# Altium integrated library Altium_WE_eiSos_WE-CNSW.intlib: 23 symbols
Pins are listed as number, name and electrical type; pins without a type are passive.

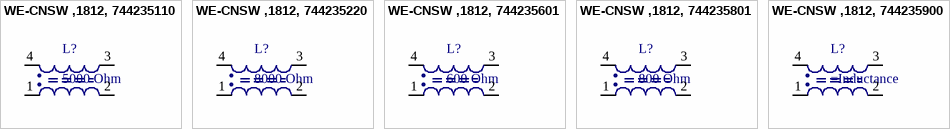
[diagram p0: symbols WE-CNSW ,1812, 744235110 to WE-CNSW ,1812, 744235900]

## WE-CNSW ,1812, 744235110
designator L?, comment 5000 Ohm
SMD Shielded Coupled Inductor WE-CNSW, Z=5000 Ohm; PartNo: 744235110; Manufacturer: Würth Elektronik eiSos GmbH; Impedance: 5000 Ohm; ComponentLink1Description: Manufacturer; ComponentLink1URL: http://www.we-online.de; Created by: Christin Zierenner; Created Date: Jan 2013; ComponentLink2Description: Datasheet; ComponentLink2URL: http://katalog.we-online.de/pbs/datasheet/744235110.pdf
footprint WE-CNSW 1812 (SMD Line Filter, 4-Leads, Body 4.5x3.2mm)
pins: 1, 2, 3, 4

## WE-CNSW ,1812, 744235220
designator L?, comment 8000 Ohm
SMD Shielded Coupled Inductor WE-CNSW, Z=8000 Ohm; PartNo: 744235220; Manufacturer: Würth Elektronik eiSos GmbH; Impedance: 8000 Ohm; ComponentLink1Description: Manufacturer; ComponentLink1URL: http://www.we-online.de; Created by: Christin Zierenner; Created Date: Jan 2013; ComponentLink2Description: Datasheet; ComponentLink2URL: http://katalog.we-online.de/pbs/datasheet/744235220.pdf
footprint WE-CNSW 1812 (SMD Line Filter, 4-Leads, Body 4.5x3.2mm)
pins: 1, 2, 3, 4

## WE-CNSW ,1812, 744235601
designator L?, comment 600 Ohm
SMD Shielded Coupled Inductor WE-CNSW, Z=600 Ohm; PartNo: 744235601; Manufacturer: Würth Elektronik eiSos GmbH; Impedance: 600 Ohm; ComponentLink1Description: Manufacturer; ComponentLink1URL: http://www.we-online.de; Created by: Christin Zierenner; Created Date: Jan 2013; ComponentLink2Description: Datasheet; ComponentLink2URL: http://katalog.we-online.de/pbs/datasheet/744235601.pdf
footprint WE-CNSW 1812 (SMD Line Filter, 4-Leads, Body 4.5x3.2mm)
pins: 1, 2, 3, 4

## WE-CNSW ,1812, 744235801
designator L?, comment 800 Ohm
SMD Shielded Coupled Inductor WE-CNSW, Z=800 Ohm; PartNo: 744235801; Manufacturer: Würth Elektronik eiSos GmbH; Impedance: 800 Ohm; ComponentLink1Description: Manufacturer; ComponentLink1URL: http://www.we-online.de; Created by: Christin Zierenner; Created Date: Jan 2013; ComponentLink2Description: Datasheet; ComponentLink2URL: http://katalog.we-online.de/pbs/datasheet/744235801.pdf
footprint WE-CNSW 1812 (SMD Line Filter, 4-Leads, Body 4.5x3.2mm)
pins: 1, 2, 3, 4

## WE-CNSW ,1812, 744235900
designator L?
SMD Shielded Coupled Inductor WE-CNSW, Z=90 Ohm; PartNo: 744235900; Manufacturer: Würth Elektronik eiSos GmbH; Impedance: 90 Ohm; ComponentLink1Description: Manufacturer; ComponentLink1URL: http://www.we-online.de; Created by: Christin Zierenner; Created Date: Jan 2013; ComponentLink2Description: Datasheet; ComponentLink2URL: http://katalog.we-online.de/pbs/datasheet/744235900.pdf
footprint WE-CNSW 1812 (SMD Line Filter, 4-Leads, Body 4.5x3.2mm)
pins: 1, 2, 3, 4


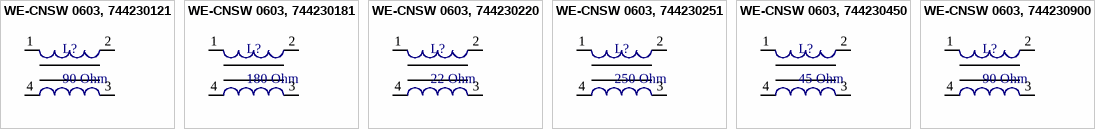
[diagram p1: symbols WE-CNSW 0603, 744230121 to WE-CNSW 0603, 744230900]

## WE-CNSW 0603, 744230121
designator L?, comment 90 Ohm
SMD Common Mode Noise Suppressor WE-CNSW,  Z= 120 Ohm; partNo: 744230900; Manufacturer: Würth Elektronik eiSos GmbH; Impedance: 90 Ohm; ComponentLink1Description: Manufacturer; ComponentLink1URL: http://www.we-online.de; Created by: Christin Zierenner; Created Date: March 2012; ComponentLink2Description: Datasheet; ComponentLink2URL: http://www.we-online.de/katalog/media/pdf/744230121.pdf
footprint WE-CNSW, 0603 (SMD Inductor, 4-Leads, Body 0.85x1.6mm)
pins: 1, 2, 3, 4

## WE-CNSW 0603, 744230181
designator L?, comment 180 Ohm
SMD Common Mode Noise Suppressor WE-CNSW,  Z= 180 Ohm; partNo: 744230181; Manufacturer: Würth Elektronik eiSos GmbH; Impedance: 180 Ohm; ComponentLink1Description: Manufacturer; ComponentLink1URL: http://www.we-online.de; Created by: Christin Zierenner; Created Date: March 2012; ComponentLink2Description: Datasheet; ComponentLink2URL: http://www.we-online.de/katalog/media/pdf/744230181.pdf
footprint WE-CNSW, 0603 (SMD Inductor, 4-Leads, Body 0.85x1.6mm)
pins: 1, 2, 3, 4

## WE-CNSW 0603, 744230220
designator L?, comment 22 Ohm
SMD Common Mode Noise Suppressor WE-CNSW,  Z= 22 Ohm; partNo: 744230220; Manufacturer: Würth Elektronik eiSos GmbH; Impedance: 22 Ohm; ComponentLink1Description: Manufacturer; ComponentLink1URL: http://www.we-online.de; Created by: Christin Zierenner; Created Date: March 2012; ComponentLink2Description: Datasheet; ComponentLink2URL: http://www.we-online.de/katalog/media/pdf/744230220.pdf
footprint WE-CNSW, 0603 (SMD Inductor, 4-Leads, Body 0.85x1.6mm)
pins: 1, 2, 3, 4

## WE-CNSW 0603, 744230251
designator L?, comment 250 Ohm
SMD Common Mode Noise Suppressor WE-CNSW,  Z= 250 Ohm; partNo: 744230251; Manufacturer: Würth Elektronik eiSos GmbH; Impedance: 250 Ohm; ComponentLink1Description: Manufacturer; ComponentLink1URL: http://www.we-online.de; Created by: Christin Zierenner; Created Date: March 2012; ComponentLink2Description: Datasheet; ComponentLink2URL: http://www.we-online.de/katalog/media/pdf/744230251.pdf
footprint WE-CNSW, 0603 (SMD Inductor, 4-Leads, Body 0.85x1.6mm)
pins: 1, 2, 3, 4

## WE-CNSW 0603, 744230450
designator L?, comment 45 Ohm
SMD Common Mode Noise Suppressor WE-CNSW,  Z= 45 Ohm; partNo: 744230450; Manufacturer: Würth Elektronik eiSos GmbH; Impedance: 45 Ohm; ComponentLink1Description: Manufacturer; ComponentLink1URL: http://www.we-online.de; Created by: Christin Zierenner; Created Date: March 2012; ComponentLink2Description: Datasheet; ComponentLink2URL: http://www.we-online.de/katalog/media/pdf/744230450.pdf
footprint WE-CNSW, 0603 (SMD Inductor, 4-Leads, Body 0.85x1.6mm)
pins: 1, 2, 3, 4

## WE-CNSW 0603, 744230900
designator L?, comment 90 Ohm
SMD Common Mode Noise Suppressor WE-CNSW,  Z= 90 Ohm; partNo: 744230900; Manufacturer: Würth Elektronik eiSos GmbH; Impedance: 90 Ohm; ComponentLink1Description: Manufacturer; ComponentLink1URL: http://www.we-online.de; Created by: Christin Zierenner; Created Date: March 2012; ComponentLink2Description: Datasheet; ComponentLink2URL: http://www.we-online.de/katalog/media/pdf/744230900.pdf
footprint WE-CNSW, 0603 (SMD Inductor, 4-Leads, Body 0.85x1.6mm)
pins: 1, 2, 3, 4


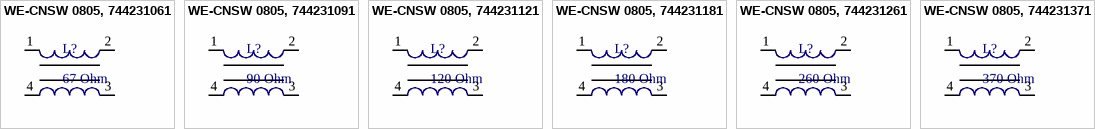
[diagram p2: symbols WE-CNSW 0805, 744231061 to WE-CNSW 0805, 744231371]

## WE-CNSW 0805, 744231061
designator L?, comment 67 Ohm
SMD Common Mode Noise Suppressor WE-CNSW,  Z= 67 Ohm; partNo: 744231061; Manufacturer: Würth Elektronik eiSos GmbH; Impedance: 67 Ohm; ComponentLink1Description: Manufacturer; ComponentLink1URL: http://www.we-online.de; Created by: Christin Zierenner; Created Date: November 2009; ComponentLink2Description: Datasheet; ComponentLink2URL: http://www.we-online.de/katalog/media/pdf/744231061.pdf
footprint WE-CNSW, 0805 (SMD Inductor, 4-Leads, Body 1,4x2,2mm)
pins: 1, 2, 3, 4

## WE-CNSW 0805, 744231091
designator L?, comment 90 Ohm
SMD Common Mode Noise Suppressor WE-CNSW,  Z= 90 Ohm; partNo: 744231091; Manufacturer: Würth Elektronik eiSos GmbH; Impedance: 90 Ohm; ComponentLink1Description: Manufacturer; ComponentLink1URL: http://www.we-online.de; Created by: Christin Zierenner; Created Date: November 2009; ComponentLink2Description: Datasheet; ComponentLink2URL: http://www.we-online.de/katalog/media/pdf/744231091.pdf
footprint WE-CNSW, 0805 (SMD Inductor, 4-Leads, Body 1,4x2,2mm)
pins: 1, 2, 3, 4

## WE-CNSW 0805, 744231121
designator L?, comment 120 Ohm
SMD Common Mode Noise Suppressor WE-CNSW,  Z= 120 Ohm; partNo: 744231121; Manufacturer: Würth Elektronik eiSos GmbH; Impedance: 120 Ohm; ComponentLink1Description: Manufacturer; ComponentLink1URL: http://www.we-online.de; Created by: Christin Zierenner; Created Date: November 2009; ComponentLink2Description: Datasheet; ComponentLink2URL: http://www.we-online.de/katalog/media/pdf/744231121.pdf
footprint WE-CNSW, 0805 (SMD Inductor, 4-Leads, Body 1,4x2,2mm)
pins: 1, 2, 3, 4

## WE-CNSW 0805, 744231181
designator L?, comment 180 Ohm
SMD Common Mode Noise Suppressor WE-CNSW,  Z= 180 Ohm; partNo: 744231181; Manufacturer: Würth Elektronik eiSos GmbH; Impedance: 180 Ohm; ComponentLink1Description: Manufacturer; ComponentLink1URL: http://www.we-online.de; Created by: Christin Zierenner; Created Date: November 2009; ComponentLink2Description: Datasheet; ComponentLink2URL: http://www.we-online.de/katalog/media/pdf/744231181.pdf
footprint WE-CNSW, 0805 (SMD Inductor, 4-Leads, Body 1,4x2,2mm)
pins: 1, 2, 3, 4

## WE-CNSW 0805, 744231261
designator L?, comment 260 Ohm
SMD Common Mode Noise Suppressor WE-CNSW,  Z= 260 Ohm; partNo: 744231261; Manufacturer: Würth Elektronik eiSos GmbH; Impedance: 260 Ohm; ComponentLink1Description: Manufacturer; ComponentLink1URL: http://www.we-online.de; Created by: Christin Zierenner; Created Date: November 2009; ComponentLink2Description: Datasheet; ComponentLink2URL: http://www.we-online.de/katalog/media/pdf/744231261.pdf
footprint WE-CNSW, 0805 (SMD Inductor, 4-Leads, Body 1,4x2,2mm)
pins: 1, 2, 3, 4

## WE-CNSW 0805, 744231371
designator L?, comment 370 Ohm
SMD Common Mode Noise Suppressor WE-CNSW,  Z= 370 Ohm; partNo: 744231371; Manufacturer: Würth Elektronik eiSos GmbH; Impedance: 370 Ohm; ComponentLink1Description: Manufacturer; ComponentLink1URL: http://www.we-online.de; Created by: Christin Zierenner; Created Date: November 2009; ComponentLink2Description: Datasheet; ComponentLink2URL: http://www.we-online.de/katalog/media/pdf/744231371.pdf
footprint WE-CNSW, 0805 (SMD Inductor, 4-Leads, Body 1,4x2,2mm)
pins: 1, 2, 3, 4


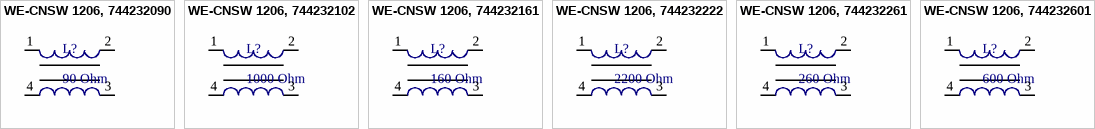
[diagram p3: symbols WE-CNSW 1206, 744232090 to WE-CNSW 1206, 744232601]

## WE-CNSW 1206, 744232090
designator L?, comment 90 Ohm
SMD Common Mode Noise Suppressor WE-CNSW,  Z= 90 Ohm; partNo: 744232090; Manufacturer: Würth Elektronik eiSos GmbH; Impedance: 90 Ohm; ComponentLink1Description: Manufacturer; ComponentLink1URL: http://www.we-online.de; Created by: Christin Zierenner; Created Date: November 2009; ComponentLink2Description: Datasheet; ComponentLink2URL: http://www.we-online.de/katalog/media/pdf/744232090.pdf
footprint WE-CNSW, 1206 (SMD Inductor, 4-Leads, Body 1,8x3,4mm)
pins: 1, 2, 3, 4

## WE-CNSW 1206, 744232102
designator L?, comment 1000 Ohm
SMD Common Mode Noise Suppressor WE-CNSW,  Z= 1000 Ohm; partNo: 744232102; Manufacturer: Würth Elektronik eiSos GmbH; Impedance: 1000 Ohm; ComponentLink1Description: Manufacturer; ComponentLink1URL: http://www.we-online.de; Created by: Christin Zierenner; Created Date: November 2009; ComponentLink2Description: Datasheet; ComponentLink2URL: http://www.we-online.de/katalog/media/pdf/744232102.pdf
footprint WE-CNSW, 1206 (SMD Inductor, 4-Leads, Body 1,8x3,4mm)
pins: 1, 2, 3, 4

## WE-CNSW 1206, 744232161
designator L?, comment 160 Ohm
SMD Common Mode Noise Suppressor WE-CNSW,  Z= 160 Ohm; partNo: 744232161; Manufacturer: Würth Elektronik eiSos GmbH; Impedance: 160 Ohm; ComponentLink1Description: Manufacturer; ComponentLink1URL: http://www.we-online.de; Created by: Christin Zierenner; Created Date: November 2009; ComponentLink2Description: Datasheet; ComponentLink2URL: http://www.we-online.de/katalog/media/pdf/744232161.pdf
footprint WE-CNSW, 1206 (SMD Inductor, 4-Leads, Body 1,8x3,4mm)
pins: 1, 2, 3, 4

## WE-CNSW 1206, 744232222
designator L?, comment 2200 Ohm
SMD Common Mode Noise Suppressor WE-CNSW,  Z= 2200 Ohm; partNo: 744232222; Manufacturer: Würth Elektronik eiSos GmbH; Impedance: 2200 Ohm; ComponentLink1Description: Manufacturer; ComponentLink1URL: http://www.we-online.de; Created by: Christin Zierenner; Created Date: November 2009; ComponentLink2Description: Datasheet; ComponentLink2URL: http://www.we-online.de/katalog/media/pdf/744232222.pdf
footprint WE-CNSW, 1206 (SMD Inductor, 4-Leads, Body 1,8x3,4mm)
pins: 1, 2, 3, 4

## WE-CNSW 1206, 744232261
designator L?, comment 260 Ohm
SMD Common Mode Noise Suppressor WE-CNSW,  Z= 260 Ohm; partNo: 744232261; Manufacturer: Würth Elektronik eiSos GmbH; Impedance: 260 Ohm; ComponentLink1Description: Manufacturer; ComponentLink1URL: http://www.we-online.de; Created by: Christin Zierenner; Created Date: November 2009; ComponentLink2Description: Datasheet; ComponentLink2URL: http://www.we-online.de/katalog/media/pdf/744232261.pdf
footprint WE-CNSW, 1206 (SMD Inductor, 4-Leads, Body 1,8x3,4mm)
pins: 1, 2, 3, 4

## WE-CNSW 1206, 744232601
designator L?, comment 600 Ohm
SMD Common Mode Noise Suppressor WE-CNSW,  Z= 600 Ohm; partNo: 744232601; Manufacturer: Würth Elektronik eiSos GmbH; Impedance: 600 Ohm; ComponentLink1Description: Manufacturer; ComponentLink1URL: http://www.we-online.de; Created by: Christin Zierenner; Created Date: November 2009; ComponentLink2Description: Datasheet; ComponentLink2URL: http://www.we-online.de/katalog/media/pdf/744232601.pdf
footprint WE-CNSW, 1206 (SMD Inductor, 4-Leads, Body 1,8x3,4mm)
pins: 1, 2, 3, 4